# EAGLE library part BNO055 (library Deegou_IC)
BNO055 - Motion Co-Processor
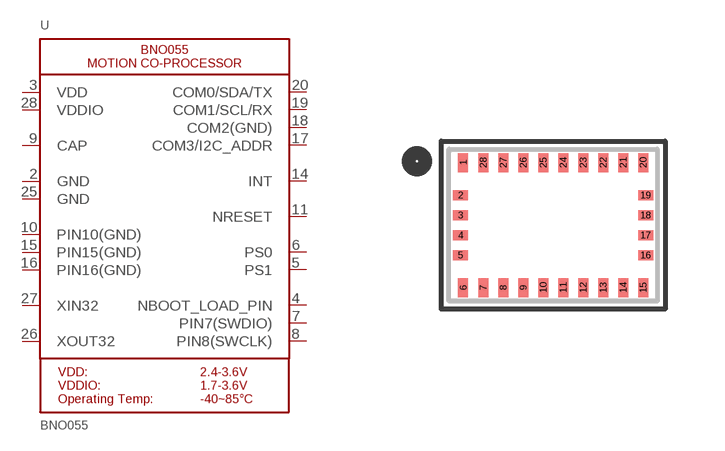
[diagram p84: symbol with the pads of BNO055; footprint BNO055]

Designator prefix -

## BNO055  [BNO055]
2  GND  pwr
3  VDD  pwr
4  NBOOT_LOAD_PIN
5  PS1  in
6  PS0  in
7  PIN7(SWDIO)
8  PIN8(SWCLK)
9  CAP  pas
10  PIN10(GND)
11  NRESET
14  INT  out
15  PIN15(GND)
16  PIN16(GND)
17  COM3/I2C_ADDR
18  COM2(GND)
19  COM1/SCL/RX
20  COM0/SDA/TX
25  GND  pwr
26  XOUT32  out
27  XIN32  in
28  VDDIO  pwr

## Footprint BNO055 (pad centres in mm)
smd 0.25 x 0.475: 1 -2.25,1.562; 6 -2.25,-1.562; 7 -1.75,-1.562; 8 -1.25,-1.562; 9 -0.75,-1.562; 10 -0.25,-1.562; 11 0.25,-1.562; 12 0.75,-1.562; 13 1.25,-1.562; 14 1.75,-1.562; 15 2.25,-1.562; 20 2.25,1.562; 21 1.75,1.562; 22 1.25,1.562; 23 0.75,1.562; 24 0.25,1.562; 25 -0.25,1.562; 26 -0.75,1.562; 27 -1.25,1.562; 28 -1.75,1.562
smd 0.375 x 0.25: 2 -2.312,0.75; 3 -2.312,0.25; 4 -2.312,-0.25; 5 -2.312,-0.75; 16 2.312,-0.75; 17 2.312,-0.25; 18 2.312,0.25; 19 2.312,0.75